# EAGLE library part DIO5158XS8 (library basisplatine_lib)
Battery Management 1A Lithium Ion Battery Charger IC Source: Datasheet <https://componentsearchengine.com/Datasheets/1/DIO5158XS8.pdf>
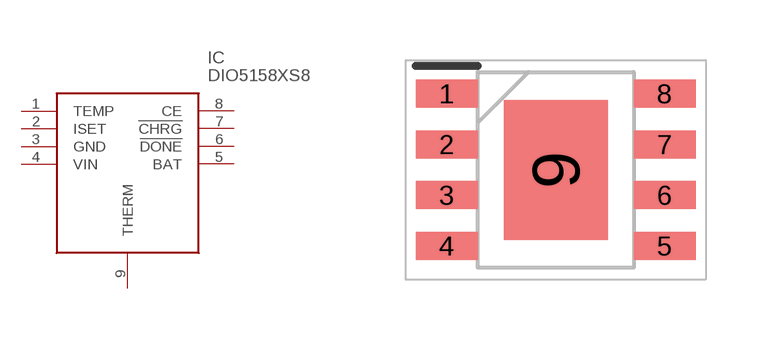
[diagram p3: symbol with the pads of SOIC127P600X170-9N; footprint SOIC127P600X170-9N]

Designator prefix IC

## DIO5158XS8 (DESCRIPTION: Battery Management 1A Lithium Ion Battery Charger IC; HEIGHT: 1.7mm; MANUFACTURER_NAME: DIOO Microcircuits; MANUFACTURER_PART_NUMBER: DIO5158XS8; MOUSER_PART_NUMBER: 453-DIO5158XS8; MOUSER_PRICE-STOCK: https://www.mouser.com/Search/Refine.aspx?Keyword=453-DIO5158XS8)  [SOIC127P600X170-9N]
1  TEMP  in
2  ISET
3  GND  pwr
4  VIN  pwr
5  BAT  pwr
6  !DONE  out
7  !CHRG  out
8  CE  in
9  THERM  pwr

## Footprint SOIC127P600X170-9N (pad centres in mm)
EP-SOIC8
smd 1.55 x 0.7: 1 -2.725,1.905; 2 -2.725,0.635; 3 -2.725,-0.635; 4 -2.725,-1.905; 5 2.725,-1.905; 6 2.725,-0.635; 7 2.725,0.635; 8 2.725,1.905
smd 2.6 x 3.5: 9 0,0